# Altium footprint library SL_Relays.PcbLib: 4 footprints
Each footprint in its own frame and in the unit in brackets; x right, y up, seen from the top. Pads: shape width x height; smd on the part's side, far side on the other; paste and mask are expansions set on the pad; w line width, h text height; cw(c..) or ccw(c..) is an arc to the next point about the centre after c.
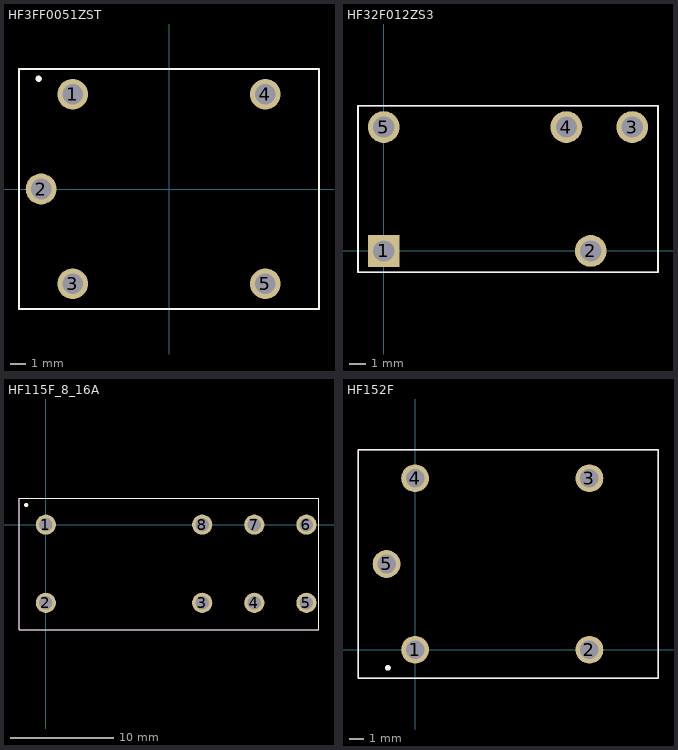
[diagram p0: the footprints below, top view; thin cyan lines are the x and y axes]

## HF3FF0051ZST [mm]
pads (5):
  round 1.95 hole 1.3: 1(-6.1,6) 2(-8.1,0) 3(-6.1,-6) 4(6.1,6) 5(6.1,-6)
Top Overlay:
  circle w0.2: c-8.255,6.985 r0.1
  lines w0.1: -9.5,-7.6 9.5,-7.6 9.5,7.6 -9.5,7.6 -9.5,-7.6
Mechanical 13:
  lines w0.1: -9.5,-7.6 9.5,-7.6 9.5,7.6 -9.5,7.6 -9.5,-7.6
Mechanical 15:
  lines w0.1: -9.5,-7.6 9.5,-7.6 9.5,7.6 -9.5,7.6 -9.5,-7.6
3D body "HF3FF_005-1ZST.stp": height 15.1, standoff -5, extent -9.5,-7.6 9.5,7.6

## HF32F012ZS3 [mm]
pads (5):
  rect 1.95x1.95 hole 1.3: 1(0,0)
  round 1.95 hole 1.3: 2(12.7,0) 3(15.24,7.6) 4(11.2,7.6) 5(0,7.6)
Top Overlay:
  lines w0.1: -1.58,-1.3 16.82,-1.3 16.82,8.9 -1.58,8.9 -1.58,-1.3
Mechanical 13:
  lines w0.1: -1.58,-1.3 16.82,-1.3 16.82,8.9 -1.58,8.9 -1.58,-1.3
Mechanical 15:
  lines w0.1: -1.58,-1.3 16.82,-1.3 16.82,8.9 -1.58,8.9 -1.58,-1.3
3D body "HF32F_012-ZS3.stp": height 16, standoff -5, extent -1.58,-1.3 16.82,8.9

## HF115F_8_16A [mm]
pads (8):
  round 1.95 hole 1.3: 1(0,0) 2(0,-7.56) 3(15.12,-7.56) 4(20.16,-7.56) 5(25.2,-7.56) 6(25.2,0) 7(20.16,0) 8(15.12,0)
Top Overlay:
  circle w0.2: c-1.905,1.905 r0.1
  lines w0.1: -2.6,-10.16 -2.6,2.55 26.416,2.55 26.416,-10.16 -2.6,-10.16
Mechanical 13:
  lines w0.1: -2.6,-10.16 -2.6,2.55 26.416,2.55 26.416,-10.16 -2.6,-10.16
Mechanical 15:
  lines w0.1: -2.6,-10.16 -2.6,2.55 26.416,2.55 26.416,-10.16 -2.6,-10.16
3D body "HF115F_005-1Z3AF.STEP": height 15.7, standoff -3.6, extent -2.6,-10.15 26.4,2.55

## HF152F [mm]
pads (5):
  round 1.95 hole 1.3: 1(0,0) 2(12.2,0) 3(12.2,12) 4(0,12) 5(-2,6)
Top Overlay:
  circle w0.2: c-1.905,-1.27 r0.1
  lines w0.1: -4,-2 17,-2 17,14 -4,14 -4,-2
Mechanical 13:
  lines w0.1: -4,-2 17,-2 17,14 -4,14 -4,-2
Mechanical 15:
  lines w0.1: -4,-2 17,-2 17,14 -4,14 -4,-2
3D body "HF152F-T_005-1ZST.stp": height 20.7, standoff -5, extent -4,-2 17,14